# Altium footprint library QFN17P40_260X260X40L40X20T110X100N.PcbLib: 1 footprints
Each footprint in its own frame and in the unit in brackets; x right, y up, seen from the top. Pads: shape width x height; smd on the part's side, far side on the other; paste and mask are expansions set on the pad; w line width, h text height; cw(c..) or ccw(c..) is an arc to the next point about the centre after c.
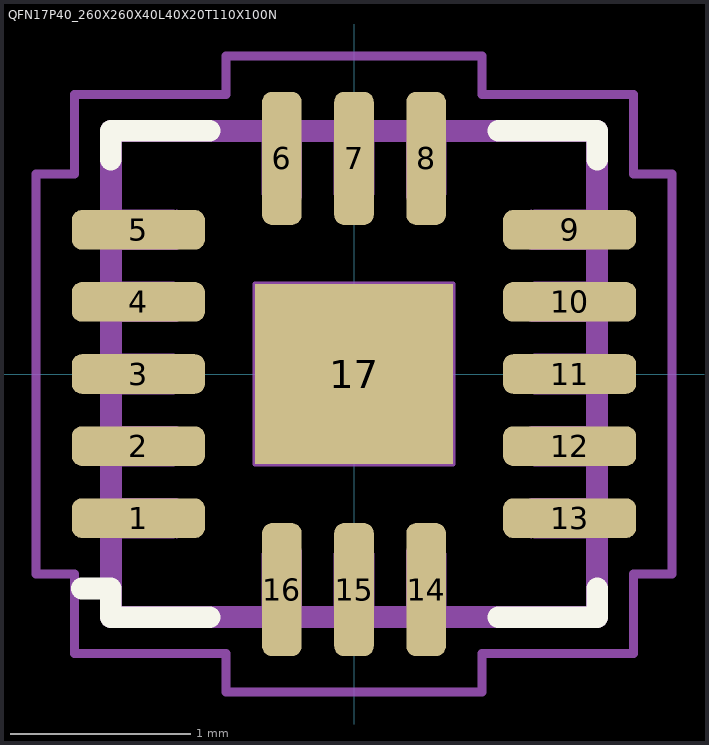
[diagram p0: the footprint, top view; thin cyan lines are the x and y axes]

## QFN17P40_260X260X40L40X20T110X100N [mm] "Quad Flat No-Lead (QFN) with Thermal Tab, 0.40 mm pitch;  square, 3 pin X 5 pin, 2.60 mm L X 2.60 mm W X 0.40 mm H Body"
height 0.4
pads (17):
  rrect50% 0.738x0.22 smd: 1(-1.196,-0.8) 2(-1.196,-0.4) 3(-1.196,0) 4(-1.196,0.4) 5(-1.196,0.8) 9(1.196,0.8) 10(1.196,0.4) 11(1.196,0) 12(1.196,-0.4) 13(1.196,-0.8)
  rrect50% 0.22x0.738 smd: 6(-0.4,1.196) 7(0,1.196) 8(0.4,1.196) 14(0.4,-1.196) 15(0,-1.196) 16(-0.4,-1.196)
  rect 1.1x1 smd paste-0.146: 17(0,0)
Top Overlay:
  lines w0.12: -1.51,-1.19 -1.35,-1.19 -1.35,-1.35 -0.8,-1.35 ; -1.35,1.19 -1.35,1.35 -0.8,1.35 ; 0.8,-1.35 1.35,-1.35 1.35,-1.19 ; 0.8,1.35 1.35,1.35 1.35,1.19
Mechanical 3:
  lines w0.12: -1.35,-1.35 -1.35,1.35 1.35,1.35 1.35,-1.35 -1.35,-1.35
Mechanical 5:
  lines w0.025: -1.3,-1.3 -1.3,1.3 1.3,1.3 1.3,-1.3 -1.3,-1.3 ; -1.301,-0.9 -1.001,-0.9 ccw(c-1.001,-0.8) -1.001,-0.7 -1.301,-0.7 -1.301,-0.9 ; -1.301,-0.5 -1.001,-0.5 ccw(c-1.001,-0.4) -1.001,-0.3 -1.301,-0.3 -1.301,-0.5 ; -1.301,-0.1 -1.001,-0.1 ccw(c-1.001,0) -1.001,0.1 -1.301,0.1 -1.301,-0.1 ; -1.301,0.3 -1.001,0.3 ccw(c-1.001,0.4) -1.001,0.5 -1.301,0.5 -1.301,0.3 ; -1.301,0.7 -1.001,0.7 ccw(c-1.001,0.8) -1.001,0.9 -1.301,0.9 -1.301,0.7 ; -0.55,-0.5 0.55,-0.5 0.55,0.5 -0.55,0.5 -0.55,-0.5 ; -0.5,-1.3 -0.5,-1 cw(c-0.4,-1) -0.3,-1 -0.3,-1.3 -0.5,-1.3 ; -0.5,1 ccw(c-0.4,1) -0.3,1 -0.3,1.3 -0.5,1.3 -0.5,1 ; -0.1,-1.3 -0.1,-1 cw(c0,-1) 0.1,-1 0.1,-1.3 -0.1,-1.3 ; -0.1,1 ccw(c0,1) 0.1,1 0.1,1.3 -0.1,1.3 -0.1,1 ; 0.3,-1.3 0.3,-1 cw(c0.4,-1) 0.5,-1 0.5,-1.3 0.3,-1.3 ; 0.3,1 ccw(c0.4,1) 0.5,1 0.5,1.3 0.3,1.3 0.3,1 ; 1,-0.9 cw(c1,-0.8) 1,-0.7 1.3,-0.7 1.3,-0.9 1,-0.9 ; 1,-0.5 cw(c1,-0.4) 1,-0.3 1.3,-0.3 1.3,-0.5 1,-0.5 ; 1,-0.1 cw(c1,0) 1,0.1 1.3,0.1 1.3,-0.1 1,-0.1 ; 1,0.3 cw(c1,0.4) 1,0.5 1.3,0.5 1.3,0.3 1,0.3 ; 1,0.7 cw(c1,0.8) 1,0.9 1.3,0.9 1.3,0.7 1,0.7
Mechanical 7:
  circle w0.05: c0,0 r0.25
  lines w0.05: -0.35,0 0.35,0 ; 0,-0.35 0,0.35 ; -1.765,-1.11 -1.765,1.11 -1.55,1.11 -1.55,1.55 -0.71,1.55 -0.71,1.765 0.71,1.765 0.71,1.55 1.55,1.55 1.55,1.11 1.765,1.11 1.765,-1.11 1.55,-1.11 1.55,-1.55 0.71,-1.55 0.71,-1.765 -0.71,-1.765 -0.71,-1.55 -1.55,-1.55 -1.55,-1.11 -1.765,-1.11
Mechanical 9:
  text "'.Designator'" at -5.69,-0.144 h1.02
3D body "QFN17P40_260X260X40L40X20T110X100.STEP": height 0.4, standoff 0, extent -1.35,-1.35 1.35,1.35
3D body: height 0.4, standoff 0, extent -1.765,-1.765 1.765,1.765